# Altium footprint library CC3200.PcbLib: 1 footprints
Each footprint in its own frame and in the unit in brackets; x right, y up, seen from the top. Pads: shape width x height; smd on the part's side, far side on the other; paste and mask are expansions set on the pad; w line width, h text height; cw(c..) or ccw(c..) is an arc to the next point about the centre after c.
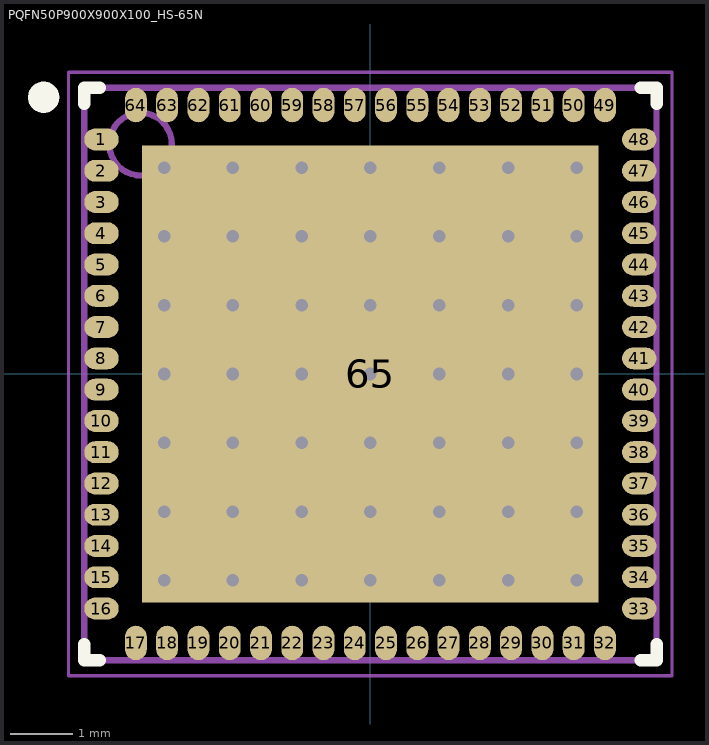
[diagram p0: the footprint, top view; thin cyan lines are the x and y axes]

## PQFN50P900X900X100_HS-65N [mm] "PQFN, 64-Leads, Body 9.00x9.00mm, Pitch 0.50mm, Thermal Pad 7.30x7.30mm, IPC Medium Density"
height 1
pads (65):
  oval 0.55x0.35 smd: 1(-4.3,3.75) 2(-4.3,3.25) 3(-4.3,2.75) 4(-4.3,2.25) 5(-4.3,1.75) 6(-4.3,1.25) 7(-4.3,0.75) 8(-4.3,0.25) 9(-4.3,-0.25) 10(-4.3,-0.75) 11(-4.3,-1.25) 12(-4.3,-1.75) 13(-4.3,-2.25) 14(-4.3,-2.75) 15(-4.3,-3.25) 16(-4.3,-3.75) 33(4.3,-3.75) 34(4.3,-3.25) 35(4.3,-2.75) 36(4.3,-2.25) 37(4.3,-1.75) 38(4.3,-1.25) 39(4.3,-0.75) 40(4.3,-0.25) 41(4.3,0.25) 42(4.3,0.75) 43(4.3,1.25) 44(4.3,1.75) 45(4.3,2.25) 46(4.3,2.75) 47(4.3,3.25) 48(4.3,3.75)
  oval 0.35x0.55 smd: 17(-3.75,-4.3) 18(-3.25,-4.3) 19(-2.75,-4.3) 20(-2.25,-4.3) 21(-1.75,-4.3) 22(-1.25,-4.3) 23(-0.75,-4.3) 24(-0.25,-4.3) 25(0.25,-4.3) 26(0.75,-4.3) 27(1.25,-4.3) 28(1.75,-4.3) 29(2.25,-4.3) 30(2.75,-4.3) 31(3.25,-4.3) 32(3.75,-4.3) 49(3.75,4.3) 50(3.25,4.3) 51(2.75,4.3) 52(2.25,4.3) 53(1.75,4.3) 54(1.25,4.3) 55(0.75,4.3) 56(0.25,4.3) 57(-0.25,4.3) 58(-0.75,4.3) 59(-1.25,4.3) 60(-1.75,4.3) 61(-2.25,4.3) 62(-2.75,4.3) 63(-3.25,4.3) 64(-3.75,4.3)
  rect 7.3x7.3 smd: 65(0,0)
via 3.3,-3.3 diameter 0.5 hole 0.2
via 2.2,-3.3 diameter 0.5 hole 0.2
via 1.1,-3.3 diameter 0.5 hole 0.2
via 0,-3.3 diameter 0.5 hole 0.2
via -1.1,-3.3 diameter 0.5 hole 0.2
via -2.2,-3.3 diameter 0.5 hole 0.2
via -3.3,-3.3 diameter 0.5 hole 0.2
via 3.3,-2.2 diameter 0.5 hole 0.2
via 2.2,-2.2 diameter 0.5 hole 0.2
via 1.1,-2.2 diameter 0.5 hole 0.2
via 0,-2.2 diameter 0.5 hole 0.2
via -1.1,-2.2 diameter 0.5 hole 0.2
via -2.2,-2.2 diameter 0.5 hole 0.2
via -3.3,-2.2 diameter 0.5 hole 0.2
via 3.3,-1.1 diameter 0.5 hole 0.2
via 2.2,-1.1 diameter 0.5 hole 0.2
via 1.1,-1.1 diameter 0.5 hole 0.2
via 0,-1.1 diameter 0.5 hole 0.2
via -1.1,-1.1 diameter 0.5 hole 0.2
via -2.2,-1.1 diameter 0.5 hole 0.2
via -3.3,-1.1 diameter 0.5 hole 0.2
via 3.3,0 diameter 0.5 hole 0.2
via 2.2,0 diameter 0.5 hole 0.2
via 1.1,0 diameter 0.5 hole 0.2
via 0,0 diameter 0.5 hole 0.2
via -1.1,0 diameter 0.5 hole 0.2
via -2.2,0 diameter 0.5 hole 0.2
via -3.3,0 diameter 0.5 hole 0.2
via 3.3,1.1 diameter 0.5 hole 0.2
via 2.2,1.1 diameter 0.5 hole 0.2
via 1.1,1.1 diameter 0.5 hole 0.2
via 0,1.1 diameter 0.5 hole 0.2
via -1.1,1.1 diameter 0.5 hole 0.2
via -2.2,1.1 diameter 0.5 hole 0.2
via -3.3,1.1 diameter 0.5 hole 0.2
via 3.3,2.2 diameter 0.5 hole 0.2
via 2.2,2.2 diameter 0.5 hole 0.2
via 1.1,2.2 diameter 0.5 hole 0.2
via 0,2.2 diameter 0.5 hole 0.2
via -1.1,2.2 diameter 0.5 hole 0.2
via -2.2,2.2 diameter 0.5 hole 0.2
via -3.3,2.2 diameter 0.5 hole 0.2
via 3.3,3.3 diameter 0.5 hole 0.2
via 2.2,3.3 diameter 0.5 hole 0.2
via 1.1,3.3 diameter 0.5 hole 0.2
via 0,3.3 diameter 0.5 hole 0.2
via -1.1,3.3 diameter 0.5 hole 0.2
via -2.2,3.3 diameter 0.5 hole 0.2
via -3.3,3.3 diameter 0.5 hole 0.2
Top Overlay:
  circle w0.25: c-5.225,4.425 r0.125
  lines w0.2: -4.575,-4.325 -4.575,-4.575 -4.325,-4.575 ; -4.575,4.325 -4.575,4.575 -4.325,4.575 ; 4.325,-4.575 4.575,-4.575 4.575,-4.325 ; 4.325,4.575 4.575,4.575 4.575,4.325
Mechanical 13:
  circle w0.1: c-3.675,3.675 r0.5
  lines w0.1: -4.575,-4.575 4.575,-4.575 4.575,4.575 -4.575,4.575 -4.575,-4.575
Mechanical 15:
  lines w0.05: -4.825,-4.825 4.825,-4.825 4.825,4.825 -4.825,4.825 -4.825,-4.825
  lines w0.1: -0.5,0 0.5,0 ; 0,-0.5 0,0.5
3D body "PQFN50P900X900X100_HS-65N.step": height 1, standoff 0, extent -4.575,-4.575 4.575,4.575